# EAGLE library part XCF00P (library Xilinx)
Xilinx XCF08P, XCF16P, and XCF32P Platform Flash Configuration PROMS
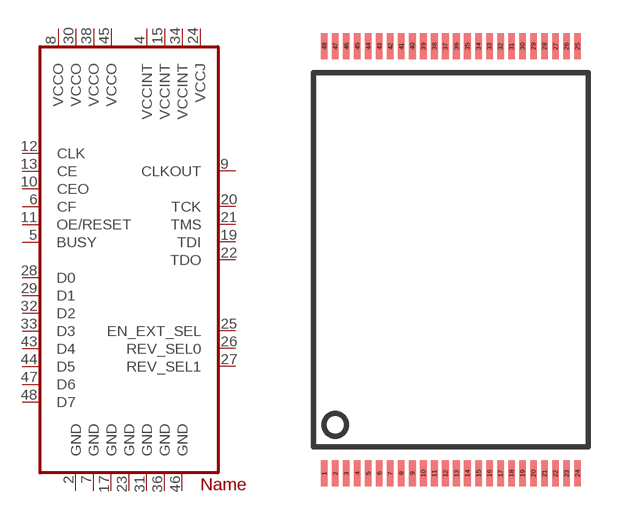
[diagram p36: symbol with the pads of TSOP48(VO48); footprint TSOP48(VO48)]

Designator prefix IC

## XCF00P-VO48  [TSOP48(VO48)]
2  GND  pwr
4  VCCINT  pwr
5  BUSY
6  CF
7  GND  pwr
8  VCCO  pwr
9  CLKOUT
10  CEO
11  OE/RESET
12  CLK
13  CE
15  VCCINT  pwr
17  GND  pwr
19  TDI
20  TCK
21  TMS
22  TDO
23  GND  pwr
24  VCCJ  pwr
25  EN_EXT_SEL
26  REV_SEL0
27  REV_SEL1
28  D0
29  D1
30  VCCO  pwr
31  GND  pwr
32  D2
33  D3
34  VCCINT  pwr
36  GND  pwr
38  VCCO  pwr
43  D4
44  D5
45  VCCO  pwr
46  GND  pwr
47  D6
48  D7

## Footprint TSOP48(VO48) (pad centres in mm)
48 pin TSOP package or Xilinx VO48/VOG48
smd 0.3 x 1.2: 1 -6,-9.7; 2 -5.5,-9.7; 3 -5,-9.7; 4 -4.5,-9.7; 5 -4,-9.7; 6 -3.5,-9.7; 7 -3,-9.7; 8 -2.5,-9.7; 9 -2,-9.7; 10 -1.5,-9.7; 11 -1,-9.7; 12 -0.5,-9.7; 13 0,-9.7; 14 0.5,-9.7; 15 1,-9.7; 16 1.5,-9.7; 17 2,-9.7; 18 2.5,-9.7; 19 3,-9.7; 20 3.5,-9.7; 21 4,-9.7; 22 4.5,-9.7; 23 5,-9.7; 24 5.5,-9.7; 25 5.5,9.7; 26 5,9.7; 27 4.5,9.7; 28 4,9.7; 29 3.5,9.7; 30 3,9.7; 31 2.5,9.7; 32 2,9.7; 33 1.5,9.7; 34 1,9.7; 35 0.5,9.7; 36 0,9.7; 37 -0.5,9.7; 38 -1,9.7; 39 -1.5,9.7; 40 -2,9.7; 41 -2.5,9.7; 42 -3,9.7; 43 -3.5,9.7; 44 -4,9.7; 45 -4.5,9.7; 46 -5,9.7; 47 -5.5,9.7; 48 -6,9.7